# Altium footprint library INF-PG-TSNP-6-2-V.PcbLib: 1 footprints
Each footprint in its own frame and in the unit in brackets; x right, y up, seen from the top. Pads: shape width x height; smd on the part's side, far side on the other; paste and mask are expansions set on the pad; w line width, h text height; cw(c..) or ccw(c..) is an arc to the next point about the centre after c.
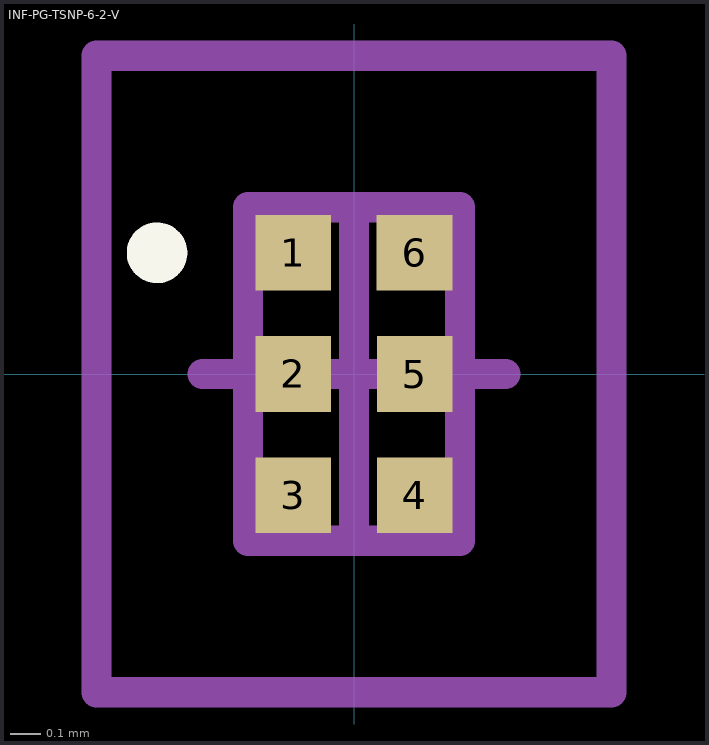
[diagram p0: the footprint, top view; thin cyan lines are the x and y axes]

## INF-PG-TSNP-6-2-V [mm] "TSNP-6-2 ,0.40mm Pitch, 6 Pin, 0.7mm W X 1.1mm L X 0.4mm H body"
height 0.4
pads (6):
  rect 0.25x0.25 smd paste-0.15 mask+0: 1(-0.2,0.4) 2(-0.2,0) 3(-0.2,-0.4) 4(0.2,-0.4) 5(0.2,0) 6(0.2,0.4)
Top Overlay:
  circle w0.1: c-0.65,0.4 r0.05
Top Paste:
  region: 0.075,-0.4 0.075,-0.425 0.094,-0.471 0.129,-0.506 0.175,-0.525 0.2,-0.525 0.225,-0.525 0.271,-0.506 0.306,-0.471 0.325,-0.425 0.325,-0.4 0.325,-0.375 0.306,-0.329 0.271,-0.294 0.225,-0.275 0.2,-0.275 0.175,-0.275 0.129,-0.294 0.094,-0.329 0.075,-0.375
  region: -0.325,0 -0.325,-0.025 -0.306,-0.071 -0.271,-0.106 -0.225,-0.125 -0.2,-0.125 -0.175,-0.125 -0.129,-0.106 -0.094,-0.071 -0.075,-0.025 -0.075,0 -0.075,0.025 -0.094,0.071 -0.129,0.106 -0.175,0.125 -0.2,0.125 -0.225,0.125 -0.271,0.106 -0.306,0.071 -0.325,0.025
  region: -0.325,-0.4 -0.325,-0.425 -0.306,-0.471 -0.271,-0.506 -0.225,-0.525 -0.2,-0.525 -0.175,-0.525 -0.129,-0.506 -0.094,-0.471 -0.075,-0.425 -0.075,-0.4 -0.075,-0.375 -0.094,-0.329 -0.129,-0.294 -0.175,-0.275 -0.2,-0.275 -0.225,-0.275 -0.271,-0.294 -0.306,-0.329 -0.325,-0.375
  region: 0.075,0 0.075,-0.025 0.094,-0.071 0.129,-0.106 0.175,-0.125 0.2,-0.125 0.225,-0.125 0.271,-0.106 0.306,-0.071 0.325,-0.025 0.325,0 0.325,0.025 0.306,0.071 0.271,0.106 0.225,0.125 0.2,0.125 0.175,0.125 0.129,0.106 0.094,0.071 0.075,0.025
  region: -0.325,0.4 -0.325,0.375 -0.306,0.329 -0.271,0.294 -0.225,0.275 -0.2,0.275 -0.175,0.275 -0.129,0.294 -0.094,0.329 -0.075,0.375 -0.075,0.4 -0.075,0.425 -0.094,0.471 -0.129,0.506 -0.175,0.525 -0.2,0.525 -0.225,0.525 -0.271,0.506 -0.306,0.471 -0.325,0.425
  region: 0.075,0.4 0.075,0.375 0.094,0.329 0.129,0.294 0.175,0.275 0.2,0.275 0.225,0.275 0.271,0.294 0.306,0.329 0.325,0.375 0.325,0.4 0.325,0.425 0.306,0.471 0.271,0.506 0.225,0.525 0.2,0.525 0.175,0.525 0.129,0.506 0.094,0.471 0.075,0.425
Top Solder:
  region: -0.425,0.625 0.425,0.625 0.425,-0.625 -0.425,-0.625
Mechanical 3:
  text ".DESIGNATOR" at 0,0 h1.2
Mechanical 13:
  lines w0.1: -0.35,-0.55 0.35,-0.55 0.35,0.55 -0.35,0.55 -0.35,-0.55
Mechanical 15:
  lines w0.1: -0.5,0 0.5,0 ; 0,-0.5 0,0.5 ; -0.85,-1.05 0.85,-1.05 0.85,1.05 -0.85,1.05 -0.85,-1.05
3D body "PG-TSNP-6-2_C66065-A0004-C013-04-0004.stp": height 0.4, standoff 0, extent -0.35,-0.55 0.35,0.55